# Altium schematic symbol library GenericButtons.SchLib: 2 symbols
Pins are listed as number, name and electrical type; pins without a type are passive.

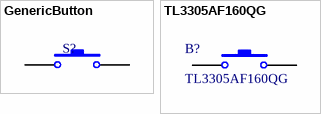
[diagram p0: symbols GenericButton to TL3305AF160QG]

## GenericButton
designator S?  (value not drawn)
pins: 1, 2

## TL3305AF160QG
designator B?
Tactile Switch SPST-NO Top Actuated Surface Mount; Supplier 1: Digi-Key; Supplier Part Number 1: EG5350CT-ND
pins: 1, 3 2